# Altium footprint library Relay_THT.PcbLib: 117 footprints (part 2 of 8)
Each footprint in its own frame and in the unit in brackets; x right, y up, seen from the top. Pads: shape width x height; smd on the part's side, far side on the other; paste and mask are expansions set on the pad; w line width, h text height; cw(c..) or ccw(c..) is an arc to the next point about the centre after c.
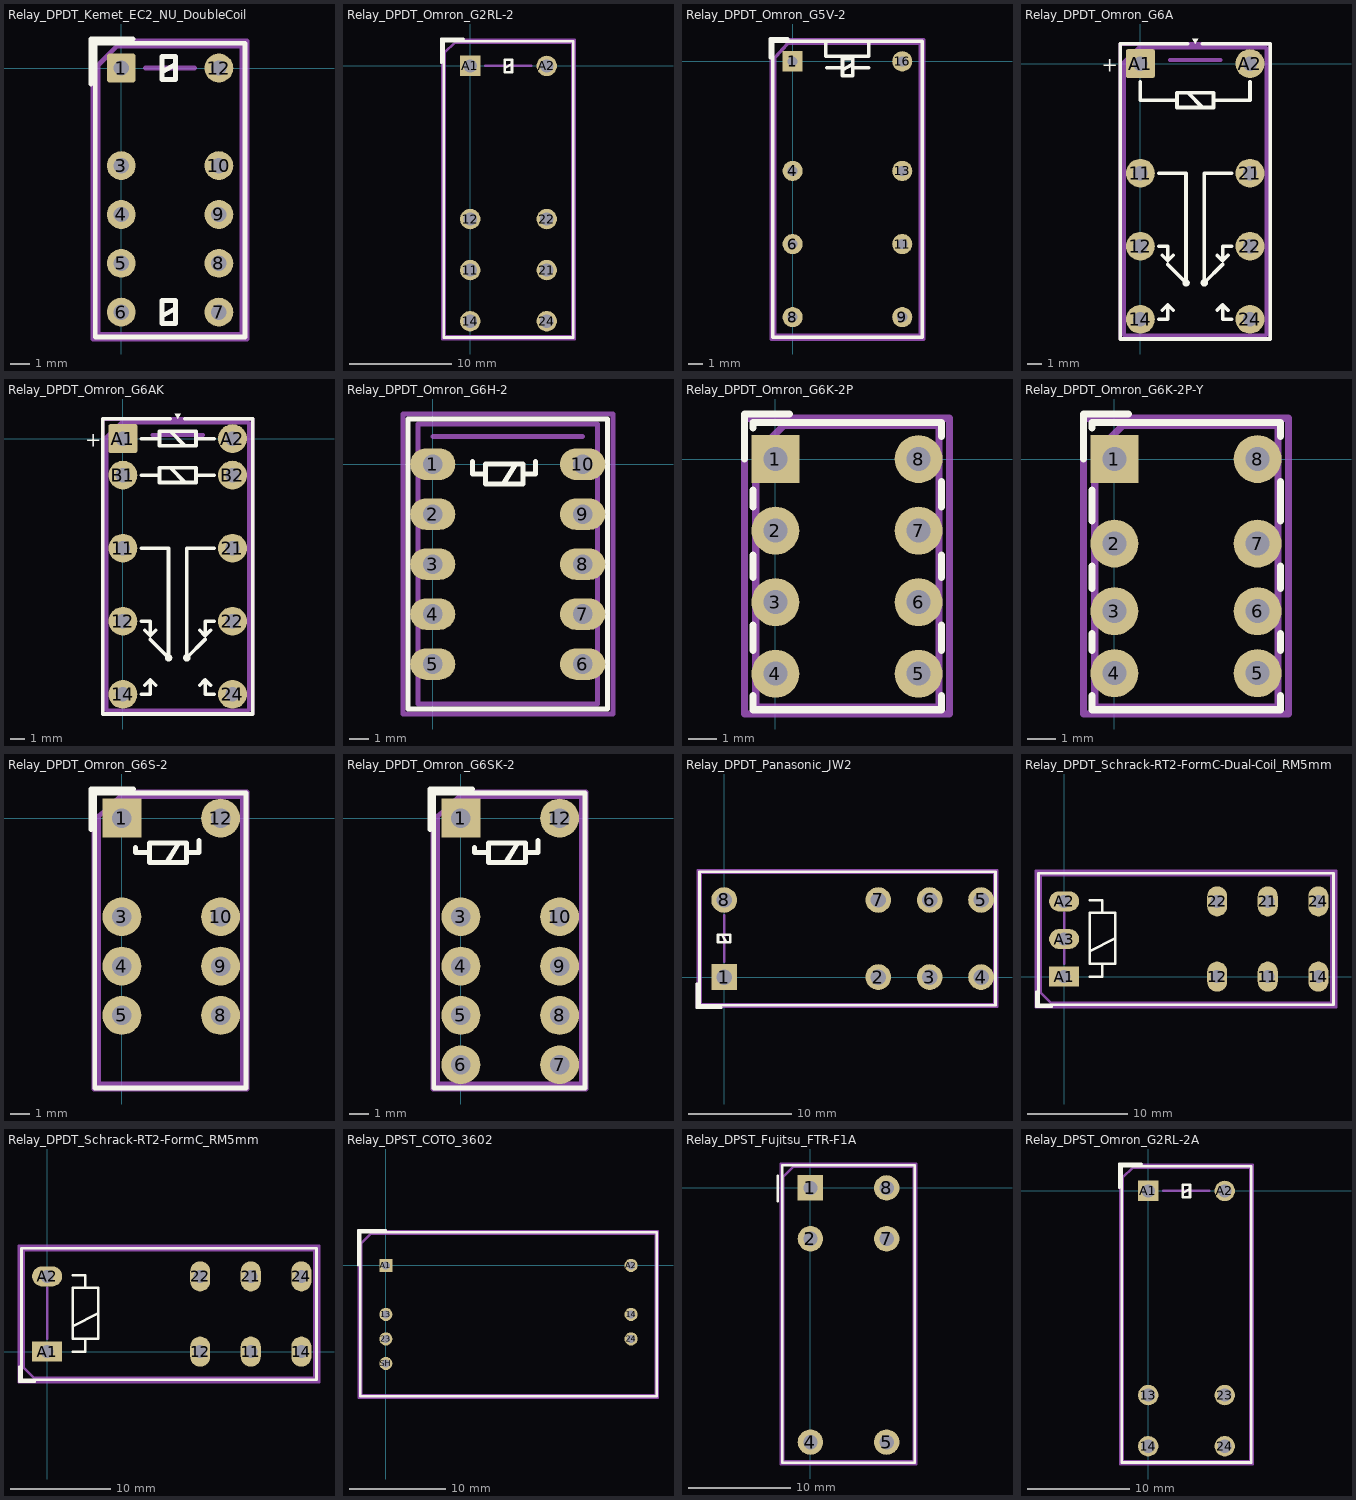
[diagram p1: the footprints below, top view; thin cyan lines are the x and y axes]

## Relay_DPDT_Kemet_EC2_NU_DoubleCoil [mm]
pads (10):
  rrect17% 1.5x1.5 hole 0.8: 1(0,0)
  round 1.5 hole 0.8: 3(0,-5.08) 4(0,-7.62) 5(0,-10.16) 6(0,-12.7) 7(5.08,-12.7) 8(5.08,-10.16) 9(5.08,-7.62) 10(5.08,-5.08) 12(5.08,0)
F.SilkS:
  lines w0.254: -1.57,-0.83 -1.57,1.51 0.62,1.51 ; -1.35,1.27 -1.35,-13.99 6.43,-13.99 6.43,1.29 -1.35,1.29 ; 2.13,-12.9 2.83,-12.5 ; 2.13,-0.2 2.83,0.2 ; 2.13,-13.3 2.13,-12.1 2.83,-12.1 2.83,-13.3 2.13,-13.3 ; 2.13,-0.6 2.13,0.6 2.83,0.6 2.83,-0.6 2.13,-0.6
F.Fab:
  lines w0.254: 1.27,0 3.81,0 ; -1.21,-13.85 -1.21,0.15 -0.21,1.15 6.29,1.15 6.29,-13.85 -1.21,-13.85
  text "'.Designator'" at 3.38,-10.397 h1
F.CrtYd:
  lines w0.254: -1.46,-14.1 -1.46,1.4 6.54,1.4 6.54,-14.1 -1.46,-14.1
3D body "Relay_DPDT_Kemet_EC2_NU_DoubleCoil.step": height 9.4, standoff -3.2, extent -1.21,-13.85 6.29,1.15

## Relay_DPDT_Omron_G2RL-2 [mm]
pads (8):
  round 2 hole 1.3: 11(0,-20) 12(0,-15) 14(0,-25) 21(7.5,-20) 22(7.5,-15) 24(7.5,-25) A2(7.5,0)
  rect 2x2 hole 1.3: A1(0,0)
F.SilkS:
  lines w0.254: -2.84,0.3 -2.84,2.64 -0.65,2.64 ; 3.4,-0.2 4.1,0.2 ; -2.6,-26.6 -2.6,2.4 10.1,2.4 10.1,-26.6 -2.6,-26.6 ; 3.4,-0.6 3.4,0.6 4.1,0.6 4.1,-0.6 3.4,-0.6
F.Fab:
  lines w0.254: 1.5,0 6,0 ; -2.5,-26.5 -2.5,1.3 -1.5,2.3 10,2.3 10,-26.5 -2.5,-26.5
  text "'.Designator'" at 4.59,-16.047 h1
F.CrtYd:
  lines w0.254: -2.75,-26.75 -2.75,2.55 10.25,2.55 10.25,-26.75 -2.75,-26.75
3D body "Relay_DPDT_Omron_G2RL.step": height 15.7, standoff -3.5, extent -2.5,-26.5 10,2.3

## Relay_DPDT_Omron_G5V-2 [mm]
pads (8):
  rect 1.4x1.4 hole 0.7: 1(0,0)
  round 1.4 hole 0.7: 4(0,-7.62) 6(0,-12.7) 8(0,-17.78) 9(7.62,-17.78) 11(7.62,-12.7) 13(7.62,-7.62) 16(7.62,0)
F.SilkS:
  lines w0.254: -1.54,0.25 -1.54,1.55 -0.33,1.55 ; 2.3,0.34 5.3,0.34 5.3,1.4 ; 2.3,0.36 2.3,1.4 ; 2.37,-0.44 3.47,-0.44 ; 3.47,-0.61 4.17,-0.21 ; 4.17,-0.44 5.27,-0.44 ; -1.38,-19.19 -1.38,1.4 9,1.4 9,-19.19 -1.38,-19.19 ; 3.47,-1.01 3.47,0.19 4.17,0.19 4.17,-1.01 3.47,-1.01
F.Fab:
  lines w0.254: -1.24,-19.04 -1.24,0.25 -0.33,1.26 8.86,1.26 8.86,-19.04 -1.24,-19.04
  text "'.Designator'" at -0.107,-10 h1
F.CrtYd:
  lines w0.254: -1.48,-19.3 -1.48,1.5 9.1,1.5 9.1,-19.3 -1.48,-19.3
3D body "Relay_DPDT_Omron_G5V-2.step": height 11.5, standoff -3, extent -1.2,-19 8.7,1.3

## Relay_DPDT_Omron_G6A [mm]
pads (8):
  round 2 hole 1: 11(0,-7.62) 12(0,-12.7) 14(0,-17.78) 21(7.62,-7.62) 22(7.62,-12.7) 24(7.62,-17.78) A2(7.62,0)
  rrect12% 2x2 hole 1: A1(0,0)
F.SilkS:
  circle w0.254: c3.175,-15.24 r0.13
  circle w0.254: c4.445,-15.24 r0.13
  region: 3.81,1.37 3.61,1.709 4.01,1.709
  lines w0.254: 0,-1.27 0,-2.54 2.54,-2.54 ; 1.27,-17.78 1.905,-17.78 1.905,-16.764 ; 1.27,-12.7 1.905,-12.7 1.905,-13.716 ; 1.27,-7.62 3.175,-7.62 3.175,-15.24 1.905,-13.97 ; 1.524,-17.145 1.905,-16.764 ; 1.524,-13.335 1.905,-13.716 ; 2.286,-17.145 1.905,-16.764 ; 2.286,-13.335 1.905,-13.716 ; 3.302,-2.03 4.318,-3.05 ; 3.302,1.37 -1.4,1.37 -1.4,-19.15 9.02,-19.15 9.02,1.37 4.318,1.37 ; 5.334,-17.145 5.715,-16.764 ; 5.334,-13.335 5.715,-13.716 ; 5.715,-13.97 4.445,-15.24 4.445,-7.62 6.35,-7.62 ; 6.096,-17.145 5.715,-16.764 ; 6.096,-13.335 5.715,-13.716 ; 6.35,-17.78 5.715,-17.78 5.715,-16.764 ; 6.35,-12.7 5.715,-12.7 5.715,-13.716 ; 7.62,-1.27 7.62,-2.54 5.08,-2.54 ; 2.54,-2.54 2.54,-2.03 5.08,-2.03 5.08,-2.54 ; 2.54,-2.54 2.54,-3.05 5.08,-3.05 5.08,-2.54
  text "+" at -2.678,-0.578 h1
F.Fab:
  lines w0.254: 2.032,0.254 5.588,0.254 ; -1.14,-18.89 -1.14,0.11 -0.14,1.11 8.76,1.11 8.76,-18.89 -1.14,-18.89
  text "'.Designator'" at 4.65,-12.937 h1
F.CrtYd:
  lines w0.254: -1.39,-19.14 -1.39,1.36 9.01,1.36 9.01,-19.14 -1.39,-19.14
3D body "Relay_DPDT_Omron_G6A.step": height 8.2, standoff -3.16, extent -1.21,-18.86 8.69,1.14

## Relay_DPDT_Omron_G6AK [mm]
pads (10):
  round 2 hole 1: 11(0,-7.62) 12(0,-12.7) 14(0,-17.78) 21(7.62,-7.62) 22(7.62,-12.7) 24(7.62,-17.78) A2(7.62,0) B1(0,-2.54) B2(7.62,-2.54)
  rrect12% 2x2 hole 1: A1(0,0)
F.SilkS:
  circle w0.254: c3.175,-15.24 r0.13
  circle w0.254: c4.445,-15.24 r0.13
  region: 3.81,1.37 3.61,1.709 4.01,1.709
  lines w0.254: 1.27,-17.78 1.905,-17.78 1.905,-16.764 ; 1.27,-12.7 1.905,-12.7 1.905,-13.716 ; 1.27,-7.62 3.175,-7.62 3.175,-15.24 1.905,-13.97 ; 1.27,-2.54 2.54,-2.54 ; 1.27,0 2.54,0 ; 1.524,-17.145 1.905,-16.764 ; 1.524,-13.335 1.905,-13.716 ; 2.286,-17.145 1.905,-16.764 ; 2.286,-13.335 1.905,-13.716 ; 3.302,1.37 -1.4,1.37 -1.4,-19.15 9.02,-19.15 9.02,1.37 4.318,1.37 ; 3.304,-2.03 4.314,-3.05 ; 3.304,0.51 4.314,-0.51 ; 5.334,-17.145 5.715,-16.764 ; 5.334,-13.335 5.715,-13.716 ; 5.715,-13.97 4.445,-15.24 4.445,-7.62 6.35,-7.62 ; 6.096,-17.145 5.715,-16.764 ; 6.096,-13.335 5.715,-13.716 ; 6.35,-17.78 5.715,-17.78 5.715,-16.764 ; 6.35,-12.7 5.715,-12.7 5.715,-13.716 ; 6.35,-2.54 5.08,-2.54 ; 6.35,0 5.08,0 ; 2.54,-2.54 2.54,-2.03 5.08,-2.03 5.08,-2.54 ; 2.54,-2.54 2.54,-3.05 5.08,-3.05 5.08,-2.54 ; 2.54,0 2.54,0.51 5.08,0.51 5.08,0 ; 2.54,0 2.54,-0.51 5.08,-0.51 5.08,0
  text "+" at -2.61,-0.578 h1
F.Fab:
  lines w0.254: 2.032,0.254 5.588,0.254 ; -1.14,-18.89 -1.14,0.11 -0.14,1.11 8.76,1.11 8.76,-18.89 -1.14,-18.89
  text "'.Designator'" at 4.65,-12.937 h1
F.CrtYd:
  lines w0.254: -1.39,-19.14 -1.39,1.36 9.01,1.36 9.01,-19.14 -1.39,-19.14
3D body "Relay_DPDT_Omron_G6AK.step": height 8.2, standoff -3.16, extent -1.21,-18.86 8.69,1.14

## Relay_DPDT_Omron_G6H-2 [mm]
pads (10):
  rrect100% 2.3x1.6 hole 1: 1(0,0) 2(0,-2.54) 3(0,-5.08) 4(0,-7.62) 5(0,-10.16) 6(7.62,-10.16) 7(7.62,-7.62) 8(7.62,-5.08) 9(7.62,-2.54) 10(7.62,0)
F.SilkS:
  lines w0.254: 2.032,0.127 2.032,-0.508 2.692,-0.508 ; 3.581,-1.016 4.216,0 ; 4.597,-0.508 5.232,-0.508 5.232,0.127 ; -1.27,-12.446 -1.27,2.286 8.89,2.286 8.89,-12.446 -1.27,-12.446 ; 2.692,-1.016 2.692,0 4.597,0 4.597,-1.016 2.692,-1.016
F.Fab:
  lines w0.254: 0,1.397 7.62,1.397 ; -0.762,-12.192 -0.762,2.032 8.382,2.032 8.382,-12.192 -0.762,-12.192
  text "'.Designator'" at -0.237,-5.92 h1
F.CrtYd:
  lines w0.254: -1.5,-12.7 -1.5,2.55 9.15,2.55 9.15,-12.7 -1.5,-12.7
3D body "Relay_DPDT_Omron_G6H-2.step": height 5.38, standoff -3.25, extent -0.69,-12.08 8.31,1.92

## Relay_DPDT_Omron_G6K-2P [mm]
pads (8):
  rect 1.7x1.7 hole 0.85: 1(0,0)
  round 1.7 hole 0.85: 2(0,-2.54) 3(0,-5.08) 4(0,-7.62) 5(5.08,-7.62) 6(5.08,-5.08) 7(5.08,-2.54) 8(5.08,0)
F.SilkS:
  lines w0.254: -1.1,0 -1.1,1.6 0.5,1.6 ; -0.8,-8.4 -0.8,-8.9 5.9,-8.9 5.9,-8.4 ; -0.8,-6.8 -0.8,-5.9 ; -0.8,-4.2 -0.8,-3.4 ; -0.8,-1.7 -0.8,-1.1 ; -0.8,1.1 -0.8,1.3 5.9,1.3 5.9,0.8 ; 5.9,-6.8 5.9,-5.9 ; 5.9,-4.2 5.9,-3.4 ; 5.9,-1.7 5.9,-0.8
F.Fab:
  lines w0.254: -0.7,-8.8 -0.7,0.2 0.3,1.2 5.8,1.2 5.8,-8.8 -0.7,-8.8
  text "'.Designator'" at -1.497,-4.64 h1
F.CrtYd:
  lines w0.254: -1.1,-9.05 -1.1,1.45 6.18,1.45 6.18,-9.05 -1.1,-9.05
3D body "Relay_DPDT_Omron_G6K-2P.step": height 5.18, standoff -3.25, extent -0.71,-8.81 5.79,1.19

## Relay_DPDT_Omron_G6K-2P-Y [mm]
pads (8):
  rect 1.7x1.7 hole 0.85: 1(0,0)
  round 1.7 hole 0.85: 2(0,-3) 3(0,-5.4) 4(0,-7.6) 5(5.08,-7.6) 6(5.08,-5.4) 7(5.08,-3) 8(5.08,0)
F.SilkS:
  lines w0.254: -1.1,0 -1.1,1.6 0.5,1.6 ; -0.8,-8.4 -0.8,-8.9 5.9,-8.9 5.9,-8.4 ; -0.8,-6.8 -0.8,-6.2 ; -0.8,-4.6 -0.8,-3.8 ; -0.8,-2.2 -0.8,-1.1 ; -0.8,1.1 -0.8,1.3 5.9,1.3 5.9,0.8 ; 5.9,-6.8 5.9,-6.2 ; 5.9,-4.6 5.9,-3.8 ; 5.9,-2.2 5.9,-0.8
F.Fab:
  lines w0.254: -0.7,-8.8 -0.7,0.2 0.3,1.2 5.8,1.2 5.8,-8.8 -0.7,-8.8
  text "'.Designator'" at -1.497,-4.64 h1
F.CrtYd:
  lines w0.254: -1.1,-9.05 -1.1,1.45 6.18,1.45 6.18,-9.05 -1.1,-9.05
3D body "Relay_DPDT_Omron_G6K-2P-Y.step": height 5.18, standoff -3.25, extent -0.71,-8.8 5.79,1.2

## Relay_DPDT_Omron_G6S-2 [mm]
pads (8):
  rect 2x2 hole 1: 1(0,0)
  round 2 hole 1: 3(0,-5.08) 4(0,-7.62) 5(0,-10.16) 8(5.08,-10.16) 9(5.08,-7.62) 10(5.08,-5.08) 12(5.08,0)
F.SilkS:
  lines w0.254: -1.6,-0.6 -1.6,1.5 0.6,1.5 ; 0.7,-1.5 0.7,-1.778 1.422,-1.778 ; 2.311,-2.286 2.946,-1.27 ; 3.327,-1.778 3.962,-1.778 3.962,-1.143 ; -1.4,-13.9 -1.4,1.3 6.4,1.3 6.4,-13.9 -1.4,-13.9 ; 1.422,-2.286 1.422,-1.27 3.327,-1.27 3.327,-2.286 1.422,-2.286
F.Fab:
  lines w0.254: -1.2,-13.7 -1.2,0.1 -0.1,1.1 6.2,1.1 6.2,-13.7 -1.2,-13.7
  text "'.Designator'" at -1.507,-7.19 h1
F.CrtYd:
  lines w0.254: -1.45,-13.95 -1.45,1.35 6.45,1.35 6.45,-13.95 -1.45,-13.95
3D body "Relay_DPDT_Omron_G6S-2.step": height 9.2, standoff -3.4, extent -1.11,-13.75 6.19,1.05

## Relay_DPDT_Omron_G6SK-2 [mm]
pads (10):
  rect 2x2 hole 1: 1(0,0)
  round 2 hole 1: 3(0,-5.08) 4(0,-7.62) 5(0,-10.16) 6(0,-12.7) 7(5.08,-12.7) 8(5.08,-10.16) 9(5.08,-7.62) 10(5.08,-5.08) 12(5.08,0)
F.SilkS:
  lines w0.254: -1.6,-0.6 -1.6,1.5 0.6,1.5 ; 0.7,-1.5 0.7,-1.778 1.422,-1.778 ; 2.311,-2.286 2.946,-1.27 ; 3.327,-1.778 3.962,-1.778 3.962,-1.143 ; -1.4,-13.9 -1.4,1.3 6.4,1.3 6.4,-13.9 -1.4,-13.9 ; 1.422,-2.286 1.422,-1.27 3.327,-1.27 3.327,-2.286 1.422,-2.286
F.Fab:
  lines w0.254: -1.2,-13.7 -1.2,0.1 -0.1,1.1 6.2,1.1 6.2,-13.7 -1.2,-13.7
  text "'.Designator'" at -1.507,-7.19 h1
F.CrtYd:
  lines w0.254: -1.45,-13.95 -1.45,1.35 6.45,1.35 6.45,-13.95 -1.45,-13.95
3D body "Relay_DPDT_Omron_G6SK-2.step": height 9.2, standoff -3.4, extent -1.11,-13.75 6.19,1.05

## Relay_DPDT_Panasonic_JW2 [mm]
pads (8):
  rect 2.5x2.5 hole 1.5: 1(0,0)
  rrect100% 2.5x2.5 hole 1.5: 2(15,0) 3(20,0) 4(25,0) 5(25,7.5) 6(20,7.5) 7(15,7.5) 8(0,7.5)
F.SilkS:
  lines w0.254: -2.64,-0.65 -2.64,-2.99 -0.3,-2.99 ; -0.2,4.1 0.2,3.4 ; -2.4,-2.75 -2.4,10.25 26.4,10.25 26.4,-2.75 -2.4,-2.75 ; -0.6,3.4 -0.6,4.1 0.6,4.1 0.6,3.4 -0.6,3.4
F.Fab:
  lines w0.254: -2.64,-0.65 -2.64,-2.99 -0.3,-2.99 ; 0,1.5 0,6 ; -2.3,-2.65 -2.3,10.15 26.3,10.15 26.3,-2.65 -2.3,-2.65
  text "'.Designator'" at 7.953,2.91 h1
F.CrtYd:
  lines w0.254: -2.55,-2.9 -2.55,10.4 26.55,10.4 26.55,-2.9 -2.55,-2.9
3D body "Relay_DPDT_Panasonic_JW2.step": height 20, standoff -3.1, extent -2.3,-2.6 26.3,10.2

## Relay_DPDT_Schrack-RT2-FormC-Dual-Coil_RM5mm [mm]
pads (9):
  rrect100% 2x3 hole 1.3: 11(20.3,0) 12(15.26,0) 14(25.34,0) 21(20.3,7.5) 22(15.26,7.5) 24(25.34,7.5)
  rect 3x2 hole 1.3: A1(0,0)
  rrect100% 3x2 hole 1.3: A2(0,7.5) A3(0,3.75)
F.SilkS:
  lines w0.254: -2.75,-1.5 -2.75,-3 -1.25,-3 ; 2.54,0 3.81,0 3.81,1.27 ; 2.54,2.54 5.08,3.81 ; 2.54,7.62 3.81,7.62 3.81,6.35 ; 3.81,1.27 2.54,1.27 2.54,6.35 5.08,6.35 5.08,1.27 3.81,1.27 ; -2.55,-2.8 -2.55,10.3 26.85,10.3 26.85,-2.8 -2.55,-2.8
F.Fab:
  lines w0.254: 0,1.27 0,6.35 ; -2.35,-1.6 -2.35,10.1 26.65,10.1 26.65,-2.6 -1.35,-2.6 -2.35,-1.6
  text "'.Designator'" at 8.018,2.97 h1
F.CrtYd:
  lines w0.254: -2.8,-3.05 -2.8,10.55 27.1,10.55 27.1,-3.05 -2.8,-3.05
3D body "Relay_DPDT_Schrack-RT2-FormC-Dual-Coil_RM5mm.step": height 15.7, standoff -5.3, extent -2.35,-2.6 26.65,10.1

## Relay_DPDT_Schrack-RT2-FormC_RM5mm [mm]
pads (8):
  rrect100% 2x3 hole 1.3: 11(20.3,0) 12(15.26,0) 14(25.34,0) 21(20.3,7.5) 22(15.26,7.5) 24(25.34,7.5)
  rect 3x2 hole 1.3: A1(0,0)
  rrect100% 3x2 hole 1.3: A2(0,7.5)
F.SilkS:
  lines w0.254: -2.75,-1.5 -2.75,-3 -1.25,-3 ; 2.54,0 3.81,0 3.81,1.27 ; 2.54,2.54 5.08,3.81 ; 2.54,7.62 3.81,7.62 3.81,6.35 ; 3.81,1.27 2.54,1.27 2.54,6.35 5.08,6.35 5.08,1.27 3.81,1.27 ; -2.55,-2.8 -2.55,10.3 26.85,10.3 26.85,-2.8 -2.55,-2.8
F.Fab:
  lines w0.254: 0,1.27 0,6.35 ; -2.35,-1.6 -2.35,10.1 26.65,10.1 26.65,-2.6 -1.35,-2.6 -2.35,-1.6
  text "'.Designator'" at 8.018,2.97 h1
F.CrtYd:
  lines w0.254: -2.8,-3.05 -2.8,10.55 27.1,10.55 27.1,-3.05 -2.8,-3.05
3D body "Relay_DPDT_Schrack-RT2-FormC_RM5mm.step": height 15.7, standoff -5.3, extent -2.35,-2.6 26.65,10.1

## Relay_DPST_COTO_3602 [mm]
pads (7):
  round 1.36 hole 0.86: 13(0,-5.08) 14(25.4,-5.08) 23(0,-7.62) 24(25.4,-7.62) A2(25.4,0) SH(0,-10.16)
  rect 1.36x1.36 hole 0.86: A1(0,0)
F.SilkS:
  lines w0.254: -2.89,0 -2.89,3.652 0,3.652 ; -2.65,-13.572 -2.65,3.412 28.05,3.412 28.05,-13.572 -2.65,-13.572
F.Fab:
  lines w0.254: -2.54,-13.462 -2.54,2.302 -1.54,3.302 27.94,3.302 27.94,-13.462 -2.54,-13.462
  text "'.Designator'" at 8.653,-6.555 h1
F.CrtYd:
  lines w0.254: -2.79,-13.72 -2.79,3.56 28.19,3.56 28.19,-13.72 -2.79,-13.72
3D body "Relay_DPST_COTO_3602.step": height 12.06, standoff -2.92, extent -2.54,-13.462 27.94,3.302

## Relay_DPST_Fujitsu_FTR-F1A [mm]
pads (6):
  rect 2.5x2.5 hole 1.4: 1(0,0)
  round 2.5 hole 1.4: 2(0,-5) 4(0,-25) 5(7.5,-25) 7(7.5,-5) 8(7.5,0)
F.SilkS:
  lines w0.254: -3.2,-1.3 -3.2,1.2 ; -2.78,-27.03 -2.78,2.23 10.28,2.23 10.28,-27.03 -2.78,-27.03
F.Fab:
  lines w0.254: -2.65,-26.9 -2.65,1.1 -1.65,2.1 10.15,2.1 10.15,-26.9 -2.65,-26.9
  text "'.Designator'" at 5.435,-19.345 h1.5
F.CrtYd:
  lines w0.254: -2.9,-27.15 -2.9,2.35 10.4,2.35 10.4,-27.15 -2.9,-27.15
3D body "Relay_DPST_Fujitsu_FTR-F1A.step": height 16.5, standoff -3.2, extent -2.65,-27 10.15,2

## Relay_DPST_Omron_G2RL-2A [mm]
pads (6):
  round 2 hole 1.3: 13(0,-20) 14(0,-25) 23(7.5,-20) 24(7.5,-25) A2(7.5,0)
  rect 2x2 hole 1.3: A1(0,0)
F.SilkS:
  lines w0.254: -2.84,0.3 -2.84,2.64 -0.65,2.64 ; 3.4,-0.2 4.1,0.2 ; -2.6,-26.6 10.1,-26.6 10.1,2.4 -2.6,2.4 -2.6,-26.6 ; 3.4,-0.6 4.1,-0.6 4.1,0.6 3.4,0.6 3.4,-0.6
F.Fab:
  lines w0.254: 1.5,0 6,0 ; -2.5,-26.5 10,-26.5 10,2.3 -1.5,2.3 -2.5,1.3 -2.5,-26.5
  text "'.Designator'" at 4.59,-16.047 h1
F.CrtYd:
  lines w0.254: -2.75,-26.75 10.25,-26.75 10.25,2.55 -2.75,2.55 -2.75,-26.75